# Altium footprint library SON.PcbLib: 3 footprints
Each footprint in its own frame and in the unit in brackets; x right, y up, seen from the top. Pads: shape width x height; smd on the part's side, far side on the other; paste and mask are expansions set on the pad; w line width, h text height; cw(c..) or ccw(c..) is an arc to the next point about the centre after c.
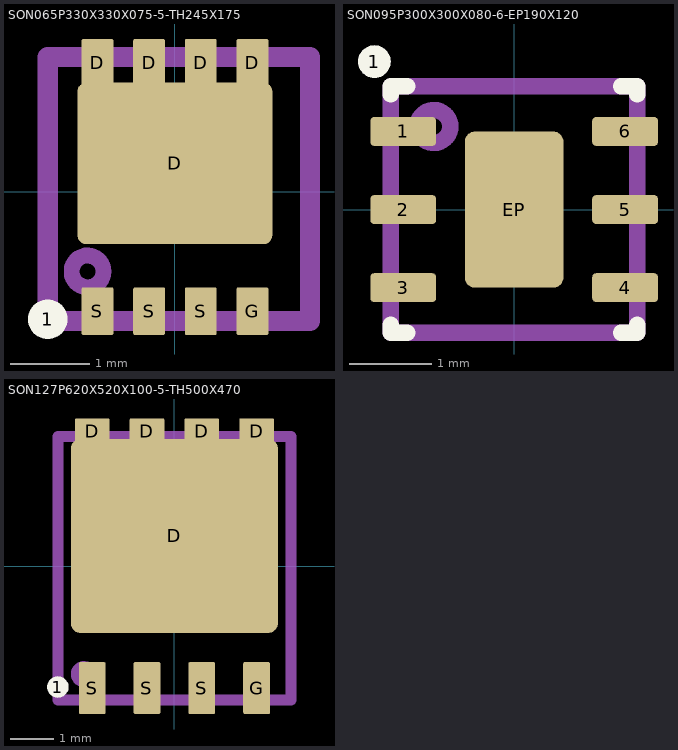
[diagram p0: the footprints below, top view; thin cyan lines are the x and y axes]

## SON065P330X330X075-5-TH245X175 [mm]
pads (10):
  round 0.5 on Top Overlay: 1(-1.6,-1.6)
  rrect10% 0.4x0.6 smd: D(-0.975,1.625) D(-0.325,1.625) D(0.325,1.625) D(0.975,1.625) G(0.975,-1.5) S(-0.975,-1.5) S(-0.325,-1.5) S(0.325,-1.5)
  rrect10% 2.45x2.03 smd: D(0,0.36)
Top Assembly:
  circle w0.2: c-1.1,-1 r0.2
  lines w0.254: -1.6,-1.625 -1.6,1.7 1.7,1.7 1.7,-1.625 -1.6,-1.625
3D body "SON065P330X330X075-5-TH245X175.stp": height 0.75, standoff 0, extent -1.65,-1.65 1.65,1.65

## SON095P300X300X080-6-EP190X120 [mm]
pads (8):
  round 0.4 on Top Overlay: 1(-1.7,1.8)
  rrect25% 0.8x0.35 smd: 1(-1.35,0.95) 2(-1.35,0) 3(-1.35,-0.95) 4(1.35,-0.95) 5(1.35,0) 6(1.35,0.95)
  rrect20% 1.2x1.9 smd: EP(0,0)
Top Overlay:
  lines w0.2: -1.5,-1.4 -1.5,-1.5 -1.3,-1.5 ; -1.5,1.4 -1.5,1.5 -1.3,1.5 ; 1.3,-1.5 1.5,-1.5 1.5,-1.4 ; 1.3,1.5 1.5,1.5 1.5,1.4
Top Assembly:
  circle w0.2: c-0.977,1.01 r0.2
  lines w0.2: -1.5,-1.5 1.5,-1.5 1.5,1.5 -1.5,1.5 -1.5,-1.5
3D body: height 0.8, standoff 0.05, extent -1.5,-1.5 1.5,1.5
3D body: height 0.2, standoff 0, extent -1.51,0.775 -1.01,1.125
3D body: height 0.2, standoff 0, extent -1.51,-0.175 -1.01,0.175
3D body: height 0.2, standoff 0, extent -1.51,-1.125 -1.01,-0.775
3D body: height 0.2, standoff 0, extent 1.01,-1.125 1.51,-0.775
3D body: height 0.2, standoff 0, extent 1.01,-0.175 1.51,0.175
3D body: height 0.2, standoff 0, extent 1.01,0.775 1.51,1.125
3D body: height 0.2, standoff 0, extent -0.6,-0.95 0.6,0.95

## SON127P620X520X100-5-TH500X470 [mm]
pads (10):
  round 0.5 on Top Overlay: 1(-2.7,-2.8)
  rrect10% 0.8x0.6 smd: D(-1.905,3.125) D(-0.635,3.125) D(0.635,3.125) D(1.905,3.125)
  rrect10% 4.8x4.5 smd: D(0,0.7)
  rrect10% 0.62x1.2 smd: G(1.905,-2.825) S(-1.905,-2.825) S(-0.635,-2.825) S(0.635,-2.825)
Top Assembly:
  circle w0.2: c-2.1,-2.5 r0.2
  lines w0.254: -2.7,-3.1 -2.7,3 2.7,3 2.7,-3.1 -2.7,-3.1
3D body "SON127P620X520X100-5-TH500X470.stp": height 1, standoff 0, extent -2.685,-3.075 2.685,3.075